# EAGLE library part 61400413321 (library USB3IO)
WR-COM Vertical USB Type B,4 pins=>Code : Con_I-O_COM_USB-2.0_B_61400413321 <http://katalog.we-online.de/media/images/v2/Family_S290_WR-COM_USB_TypeB_61400413321_4C.jpg> Details see: http://katalog.we-online.de/en/em/COM_TYPE_B_VERTICAL Created 2014-07-09, Karrer Zheng 2014 (C) Würth Elektronik
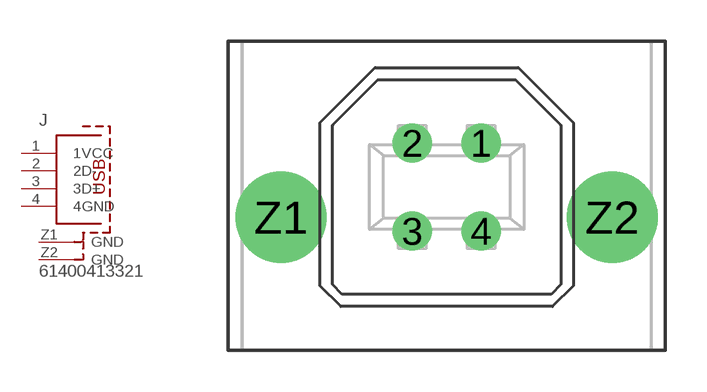
[diagram p156: symbol with the pads of 61400413321; footprint 61400413321]

Designator prefix J

## 61400413321  [61400413321]
1  1VCC
2  2D-
3  3D+
4  4GND
Z1  GND
Z2  GND

## Footprint 61400413321 (pad centres in mm)
WR-COM Vertical USB Type B, 4 pins
drill 0.92: 1 1.25,0; 2 -1.25,0; 3 -1.25,-3.2; 4 1.25,-3.2
drill 2.3: Z1 -6.02,-2.7; Z2 6.02,-2.7